# EAGLE library part HMC5983 (library myLib)
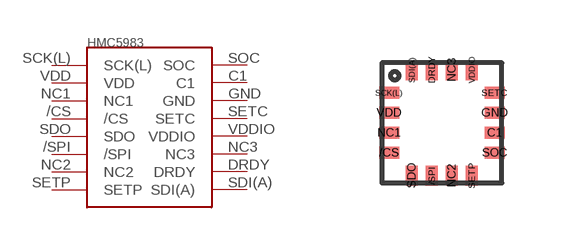
[diagram p4: symbol with the pads of HMC5983; footprint HMC5983]

Designator prefix -

## HMC5983SMD  [HMC5983]
/CS  /CS
/SPI  /SPI
C1  C1
DRDY  DRDY
GND  GND  pwr
NC1  NC1
NC2  NC2
NC3  NC3
SCK(L)  SCK(L)
SDI(A)  SDI(A)
SDO  SDO
SETC  SETC
SETP  SETP
SOC  SOC
VDD  VDD  pwr
VDDIO  VDDIO  pwr

## Footprint HMC5983 (pad centres in mm)
smd 0.5 x 0.3: /CS -1.32,-0.75; C1 1.32,-0.25; GND 1.32,0.25; NC1 -1.32,-0.25; SCK(L) -1.32,0.75; SETC 1.32,0.75; SOC 1.32,-0.75; VDD -1.32,0.25
smd 0.3 x 0.5: /SPI -0.25,-1.32; DRDY -0.25,1.32; NC2 0.25,-1.32; NC3 0.25,1.32; SDI(A) -0.75,1.32; SDO -0.75,-1.32; SETP 0.75,-1.32; VDDIO 0.75,1.32